# EAGLE library part POWER_EDGE (library tide_clock)
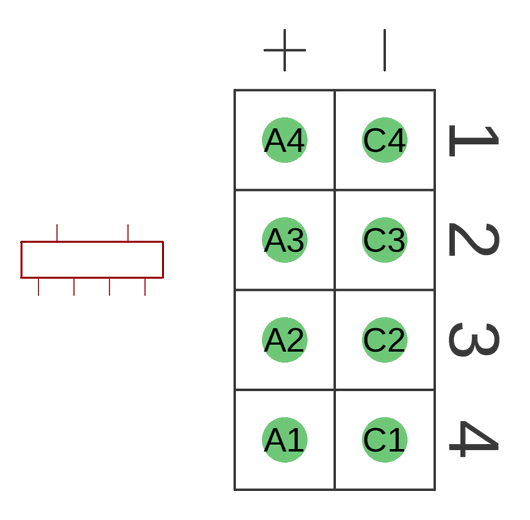
[diagram p13: symbol with the pads of POWER_EDGE; footprint POWER_EDGE]

Designator prefix JP

## POWER_EDGE  [POWER_EDGE]
A1  A1
A2  A1
A3  A2
A4  A2
C1  C1
C2  C2
C3  C3
C4  C4

## Footprint POWER_EDGE (pad centres in mm)
drill 1.5: A1 3,7.5; A2 3,12.5; A3 3,17.5; A4 3,22.5; C1 8,7.5; C2 8,12.5; C3 8,17.5; C4 8,22.5